# Altium schematic symbol library connectors.SchLib: 10 symbols
Pins are listed as number, name and electrical type; pins without a type are passive.

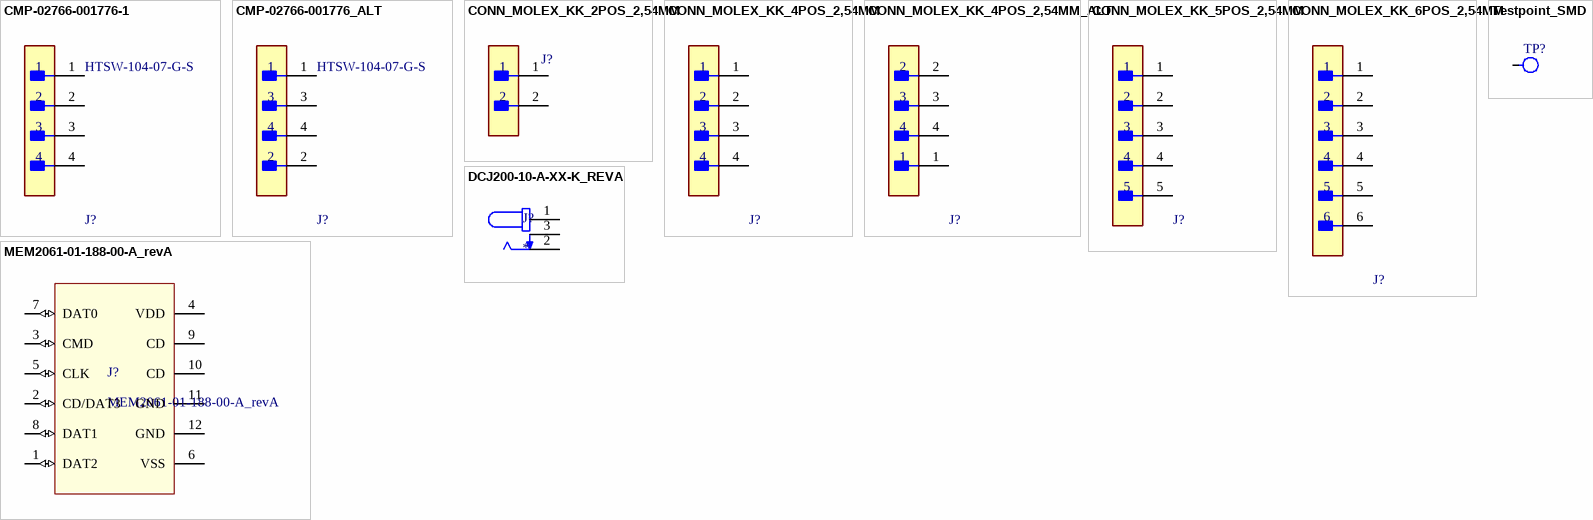
[diagram p0: symbols CMP-02766-001776-1 to Testpoint_SMD]

## CMP-02766-001776-1
designator J?, comment HTSW-104-07-G-S
CONN HEADER VERT 4POS 2.54MM; Gender: Male; Number of Contacts: 4; Packaging: Bulk; RoHS Compliant: Yes; Number of Rows: 1; Mount: Through Hole; Contact Material: Bronze; Series: HTSW; Radiation Hardening: No; Pitch: 2.54mm; Reach SVHC Compliant: Yes; Contact Plating: Gold; Termination: Through Hole
footprint FP-HTSW-104-07-G-S-MFG
pins: 1, 2, 3, 4

## CMP-02766-001776_ALT
designator J?, comment HTSW-104-07-G-S
CONN HEADER VERT 4POS 2.54MM. Versión alterna.; Gender: Male; Number of Contacts: 4; Pitch: 2.54mm; Packaging: Bulk; RoHS Compliant: Yes; Number of Rows: 1; Mount: Through Hole; Contact Material: Bronze; Series: HTSW; Radiation Hardening: No; Reach SVHC Compliant: Yes; Contact Plating: Gold; Termination: Through Hole
footprint FP-HTSW-104-07-G-S-MFG
pins: 1, 2, 3, 4

## CONN_MOLEX_KK_2POS_2,54MM
designator J?, comment 22-27-2021  (value not drawn)
CONN HEADER VERT 4POS 2.54MM MOLEX KK; Pitch: 2,54mm; Number of positions: 2; Style: Board to Cable/Wire; Mouting type: Through Hole; Fasteging type: Friction Lock; Product name: KK 254; Current - Maximum Per Contact: 4A; Voltage - Maximum: 500V; Contact type: Male Pin; Number of rows: 1
footprint CONN_MOLEX_KK_2POS_2,54 (Conector Molex KK 2 posiciones pitch 2,54mm. Basado en 0022272021.)
pins: 1, 2

## CONN_MOLEX_KK_4POS_2,54MM
designator J?, comment 22-29-2041  (value not drawn)
CONN HEADER VERT 4POS 2.54MM MOLEX KK; Insulation Resistance: 50GR; Voltage Rating: 250V; Glow Wire Compliant: Non-compliant; Max Current Rating: 4A; Number of Circuits: 4; Contact Resistance: 10mR; Gender: Male; Number of Lines: 1; Length: 10.16mm; Radiation Hardening: No; Pitch: 2.54mm; Contact Material: Brass; Height: 11.7mm; Max Operating Temperature: 75°C; Flammability Rating: UL94 V-0; Mount: Through Hole; Voltage Rating (DC): 250V; Halogen Free: Low Halogen; Housing Color: White; Package Quantity: 1500; Series: KK® 6410; Number of Rows: 1; Housing Material: Nylon; Depth: 5.8mm; RoHS Compliant: Yes; Orientation: Straight; Contact Gender: Male; Color: Natural; Current Rating: 4A; Contact Mating Length: 0.295inch; Number of Poles: 4; Packaging: Bulk; Contact Type: Male Pin; Termination: Solder; Number of Positions: 4; Number of Contacts: 4; Lead Free: Lead Free; Min Operating Temperature: 0°C; Fastening Type: Friction; Contact Plating: Gold
footprint CONN_MOLEX_KK_4POS_2,54 (Conector Molex KK 5 posiciones pitch 2,54mm. Basado en 22-29-2041.)
pins: 1, 2, 3, 4

## CONN_MOLEX_KK_4POS_2,54MM_ALT
designator J?, comment 22-29-2041  (value not drawn)
CONN HEADER VERT 4POS 2.54MM MOLEX KK; Insulation Resistance: 50GR; Voltage Rating: 250V; Glow Wire Compliant: Non-compliant; Max Current Rating: 4A; Number of Circuits: 4; Contact Resistance: 10mR; Gender: Male; Number of Lines: 1; Length: 10.16mm; Radiation Hardening: No; Pitch: 2.54mm; Contact Material: Brass; Height: 11.7mm; Max Operating Temperature: 75°C; Flammability Rating: UL94 V-0; Mount: Through Hole; Voltage Rating (DC): 250V; Halogen Free: Low Halogen; Housing Color: White; Package Quantity: 1500; Series: KK® 6410; Number of Rows: 1; Housing Material: Nylon; Depth: 5.8mm; RoHS Compliant: Yes; Orientation: Straight; Contact Gender: Male; Color: Natural; Current Rating: 4A; Contact Mating Length: 0.295inch; Number of Poles: 4; Packaging: Bulk; Contact Type: Male Pin; Termination: Solder; Number of Positions: 4; Number of Contacts: 4; Lead Free: Lead Free; Min Operating Temperature: 0°C; Fastening Type: Friction; Contact Plating: Gold
footprint CONN_MOLEX_KK_4POS_2,54 (Conector Molex KK 5 posiciones pitch 2,54mm. Basado en 22-29-2041.)
pins: 1, 2, 3, 4

## CONN_MOLEX_KK_5POS_2,54MM
designator J?, comment 0022272051  (value not drawn)
CONN HEADER VERT 5POS 2.54MM MOLEX KK; Insulation Resistance: 50GR; Voltage Rating: 250V; Glow Wire Compliant: Non-compliant; Max Current Rating: 4A; Number of Circuits: 5; Contact Resistance: 10mR; Gender: Male; Number of Lines: 1; Length: 10.16mm; Radiation Hardening: No; Pitch: 2.54mm; Contact Material: Brass; Height: 11.7mm; Max Operating Temperature: 75°C; Flammability Rating: UL94 V-0; Mount: Through Hole; Voltage Rating (DC): 250V; Halogen Free: Low Halogen; Housing Color: White; Package Quantity: 1500; Series: KK® 6410; Number of Rows: 1; Housing Material: Nylon; Depth: 5.8mm; RoHS Compliant: Yes; Orientation: Straight; Contact Gender: Male; Color: Natural; Current Rating: 4A; Contact Mating Length: 0.295inch; Number of Poles: 5; Packaging: Bulk; Contact Type: Male Pin; Termination: Solder; Number of Positions: 5; Number of Contacts: 5; Lead Free: Lead Free; Min Operating Temperature: 0°C; Fastening Type: Friction; Contact Plating: Gold
footprint CONN_MOLEX_KK_5POS_2,54 (Conector Molex KK 5 posiciones pitch 2,54mm. Basado en 0022272051.)
pins: 1, 2, 3, 4, 5

## CONN_MOLEX_KK_6POS_2,54MM
designator J?, comment 22-27-2061  (value not drawn)
CONN HEADER VERT 6POS 2.54MM; Number of Contacts: 6; Current Rating: 4A; Voltage Rating (AC): 250V; Contact Resistance: 10mR; Hole Diameter: 1.02mm; Connector Type: Male Pin; Gender: Male; Mount: Through Hole; REACH SVHC: No SVHC; Number of Rows: 1; Contact Plating: Tin; Series: KK; Depth: 5.8mm; Flammability Rating: UL94 V-0; Contact Type: Male Pin; Lead Pitch: 2.54mm; Min Operating Temperature: 0°C; Pitch: 2.54mm; Radiation Hardening: No; Color: Natural; Length: 15.24mm; Termination: Solder; Orientation: Straight; Contact Material: Brass; Max Voltage Rating (AC): 250V; Housing Material: Nylon; Max Operating Temperature: 75°C; Working Voltage: 250V; Max Current Rating: 4A; Fastening Type: Friction; Voltage Rating: 250V; Housing Color: White; Packaging: Bulk; Material: Nylon; Contact Mating Length: 0.295inch; Package Quantity: 10000; Number of Positions: 6
footprint CONN_MOLEX_KK_6POS_2,54 (Conector Molex KK 6 posiciones pitch 2,54mm. Basado en 22-27-2061.)
pins: 1, 2, 3, 4, 5, 6

## DCJ200-10-A-XX-K_REVA
designator J?
Power Barrel Connector Jack 2.05mm ID (0.081), 5.50mm OD (0.217) Through Hole, Right Angle; MF: Global Connector Technology; MP: DCJ200-10-A-K1-K; SnapEDA_Link: https://www.snapeda.com/parts/DCJ200-10-A-K1-K/Global+Connector+Technology/view-part/?ref=snap; Package: None; Value: *; Check_prices: https://www.snapeda.com/parts/DCJ200-10-A-K1-K/Global+Connector+Technology/view-part/?ref=eda
footprint GCT_DCJ200-10-A-XX-K_REVA
pins: 1, 2, 3

## MEM2061-01-188-00-A_revA
designator J?
Micro SD Memory Card Connector, 1.88mm Profile SMT,Push Push, with normally closed switch; Manufacturer: GCT; Insertion, Removal Method: Push In, Push Out; MPN: MEM2061-01-188-00-A; Mounting Type: Surface Mount, Right Angle; Datasheet: https://gct.co/files/specs/mem2061-spec.pdf
footprint MEM2061-01-188-00-A_revA (Micro SD Memory Card Connector, 1.88mm Profile SMT,Push Push, with normally closed switch)
pins: 1 DAT2 (io), 2 CD/DAT3 (io), 3 CMD (io), 4 VDD (power), 5 CLK (io), 6 VSS (power), 7 DAT0 (io), 8 DAT1 (io), 9 CD, 10 CD, 11 GND (power), 12 GND (power)

## Testpoint_SMD
designator TP?, comment Testpoint SMD  (value not drawn)  (no BOM)
Testpoint SMD de 1mm de diametro.
footprint Testpoint_SMD (Testpoint SMD de 1mm de diametro.)
pins: 1